# EAGLE library part 648107131822 (library Wuerth_Elektronik_eiCan_Wire_to_Board_Connectors v1.2)
WR-WTB 1.50mm SMT Male Horizontal Shrouded Header, 7 Pins
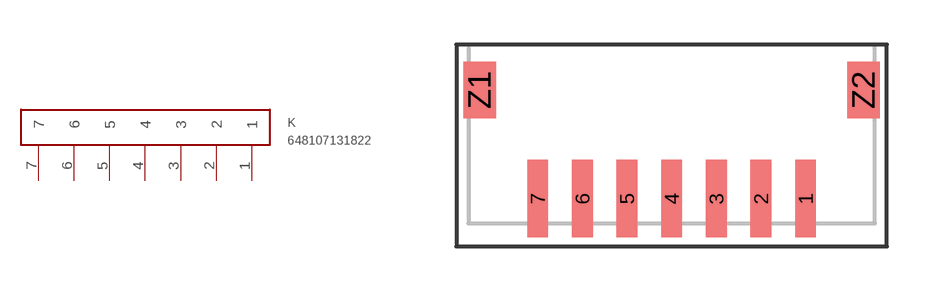
[diagram p49: symbol with the pads of 648107131822; footprint 648107131822]

Designator prefix K

## 648107131822  [648107131822]
1  1
2  2
3  3
4  4
5  5
6  6
7  7

## Footprint 648107131822 (pad centres in mm)
WR-WTB 1.50mm SMT Male Horizontal Shrouded Header, 7 Pins
smd 0.7 x 2.6: 1 8.25,0; 2 6.75,0; 3 5.25,0; 4 3.75,0; 5 2.25,0; 6 0.75,0; 7 -0.75,0
smd 1.1 x 1.9: Z1 -2.7,3.65; Z2 10.2,3.65